# Altium schematic symbol library ICS-43434.SchLib: 1 symbol
Pins are listed as number, name and electrical type; pins without a type are passive.

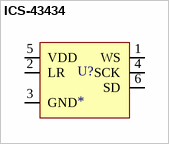
[diagram p0: symbol ICS-43434]

## ICS-43434
designator U?
INVENSENSE MEMS MICROPHONE DIGITAL
pins: 1 WS, 2 LR, 3 GND, 4 SCK, 5 VDD, 6 SD